# EAGLE library part 555 (library IC & Transistor)
555 Timer
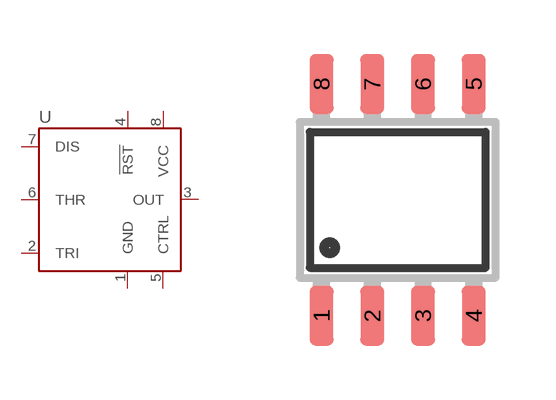
[diagram p3: symbol with the pads of SOIC-08N; footprint SOIC-08N]

Designator prefix U

## 555_(SOIC-08N) (CYTRON-PC: S-IC-LM555-SO8; DESC: S Timer LM555 SO8; MF: STMicroelectronics; MPN: NE555DT)  [SOIC-08N]
1  GND
2  TRI
3  OUT
4  !RST
5  CTRL
6  THR
7  DIS
8  VCC

## Footprint SOIC-08N (pad centres in mm)
Small Outline Integrated Circuit (SOIC) Narrow (JEDEC) SOIC Package Size: 4.9mm x 3.9mm Lead Pitch: 1.27mm
smd 0.6 x 1.5: 1 -1.905,-2.9; 2 -0.635,-2.9; 3 0.635,-2.9; 4 1.905,-2.9; 5 1.905,2.9; 6 0.635,2.9; 7 -0.635,2.9; 8 -1.905,2.9